# Altium schematic symbol library M-Controls.SchLib: 141 symbols
Pins are listed as number, name and electrical type; pins without a type are passive.

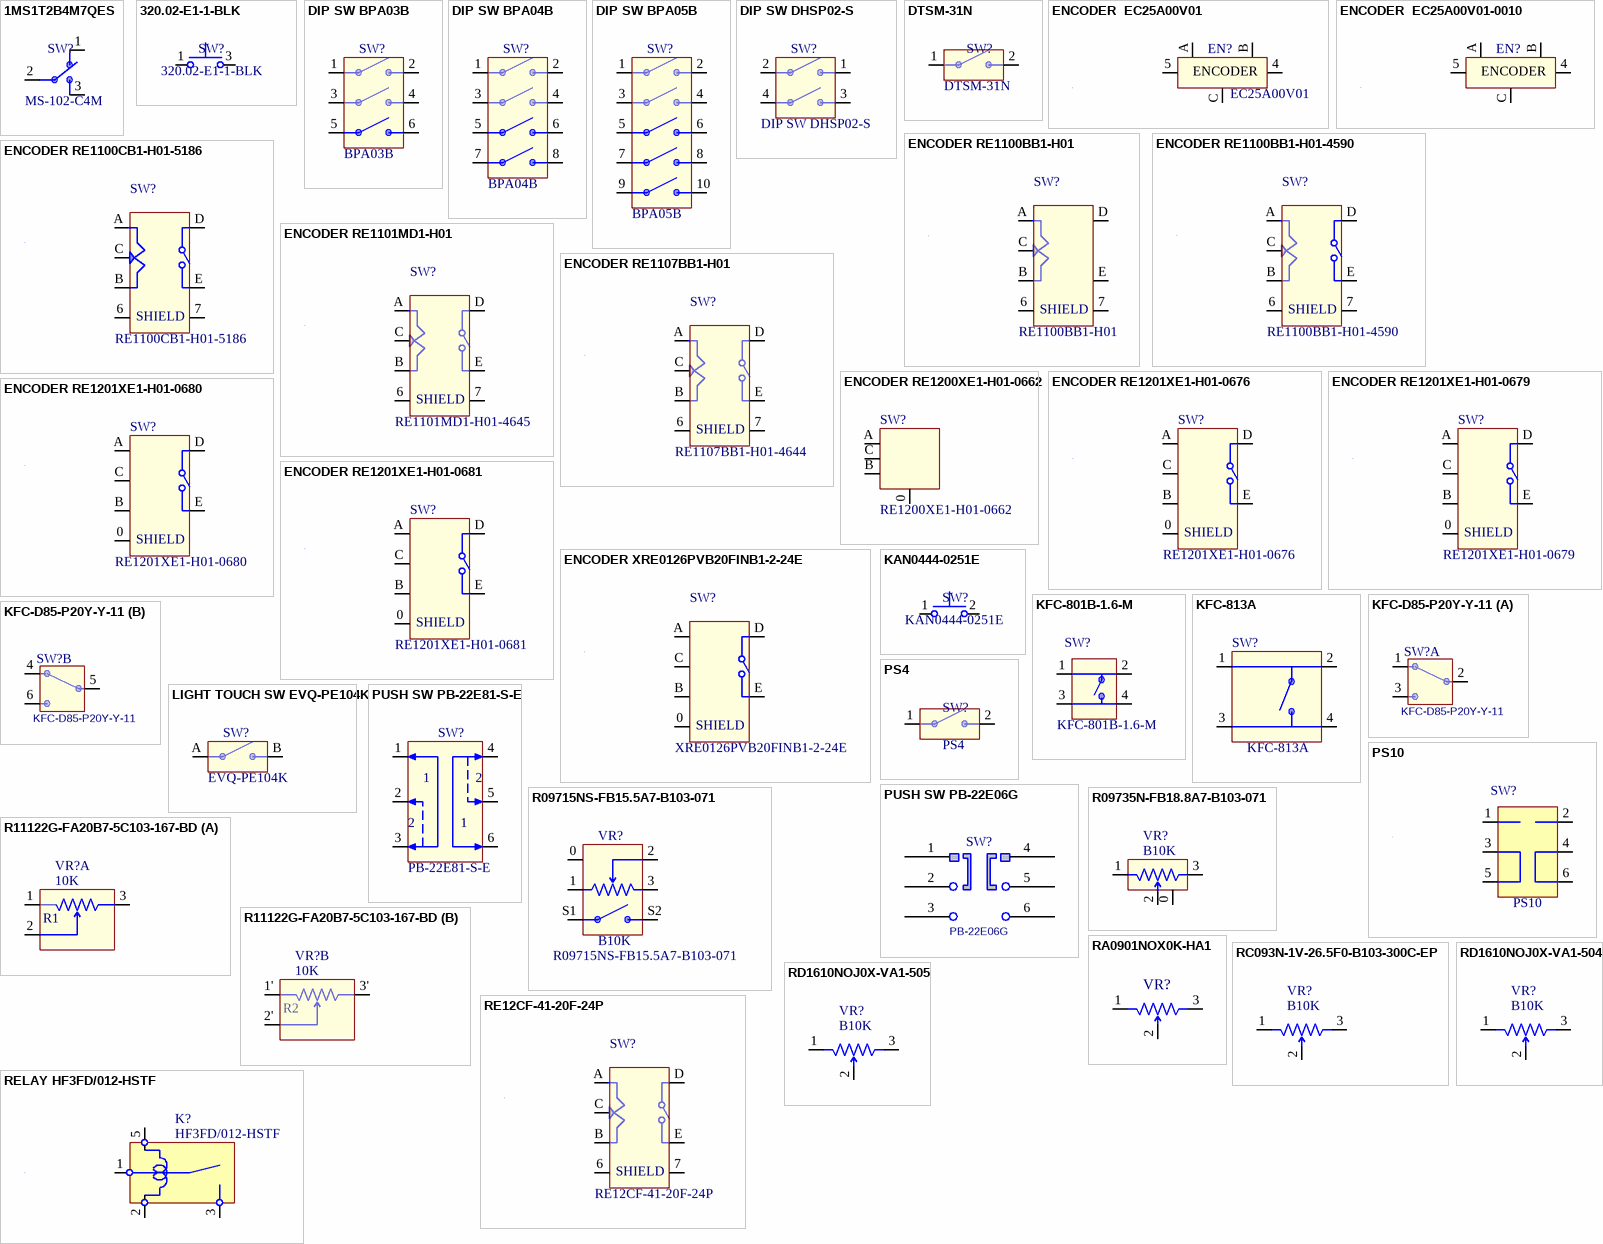
[diagram p0: symbols 1MS1T2B4M7QES to RELAY HF3FD/012-HSTF]

## 1MS1T2B4M7QES
designator SW?, comment MFG Part: MS-102-C4M  (hidden comment: MSWA07001-0010)
ROCKER SW 1MS1T2B4M7QES; SAP: T671100000500; MFG: 金明浩; Vendor Code: 10020043; Vendor Name: 深圳得势贸易有限公司; DIP&SMD: DIP; Value: *; Type: Switch
footprint 1MS1T2B4M7QES
pins: 1, 2, 3

## 320.02-E1-1-BLK
designator SW?, comment MFG Part: 320.02-E1-1-BLK  (hidden comment: MSWA06008-0010)
SMD TACT SWITCH  320.02-E1-1-BLK; SAP: T670200000600; MFG: E-SWITCH; CREATE_NAME: TOM@Deftronics; DIP&SMD: DIP; Vendor Code: *; Vendor Name: *; Type: Switch; CREATE_TIME: 09-Oct-2013
footprint 320.02-E1-1-BLK (SMD TACT SWITCH  320.02-E1-1-BLK)
pins: 1, 3

## DIP SW BPA03B
designator SW?  MFG Part: BPA03B
SIDE ACTUATOR DIP SWITCH BPA03B K; MFG: C&K; CREATE_NAME: Nathan; DIP&SMD: SMD; SAP: *; Vendor Code: *; Vendor Name: *; Value: *; Type: Switch; CREATE_TIME: 22-Dec-2020; Customer Specific: N/A
footprint BPA03B-H
pins: 1, 2, 3, 4, 5, 6

## DIP SW BPA04B
designator SW?  MFG Part: BPA04B
SIDE ACTUATOR DIP SWITCH BPA04B K; MFG: C&K; CREATE_NAME: Nathan; DIP&SMD: SMD; SAP: *; Vendor Code: *; Vendor Name: *; Value: *; Type: Switch; CREATE_TIME: 04-Dec-2020; Customer Specific: N/A
footprint BPA04B-H
pins: 1, 2, 3, 4, 5, 6, 7, 8

## DIP SW BPA05B
designator SW?  MFG Part: BPA05B
SIDE ACTUATOR DIP SWITCH BPA05B K; MFG: C&K; CREATE_NAME: Nathan; DIP&SMD: SMD; SAP: *; Vendor Code: *; Vendor Name: *; Value: *; Type: Switch; CREATE_TIME: 04-Dec-2020; Customer Specific: N/A
footprint BPA05B-H
pins: 1, 2, 3, 4, 5, 6, 7, 8, 9, 10

## DIP SW DHSP02-S
designator SW?  MFG Part: DIP SW DHSP02-S
ENCODER DHSP02-S SMD K; SAP: T671200000500; MFG: JINGJU; CREATE_NAME: Tom; Vendor Code: *; Vendor Name: *; Value: *; Type: Switch; CREATE_TIME: 23-Jul-2019; DIP&SMD: SMD; Customer Specific: N/A
footprint DIP SW DHSP02-S
pins: 1, 2, 3, 4

## DTSM-31N
designator SW?, comment MFG Part: DTSM-31N  (hidden comment: MCWA06002-0010)
CHIP SWITCH  2P  W3.5  H1.6  PITCH3.4; SAP: T670200001800; MFG: DELIWEI; Vendor Code: 10020043; Vendor Name: 深圳得势贸易有限公司; Value: TACT; Current: 50mA; Voltage: 12V; DIP&SMD: SMD; Type: Switch
footprint DTSM-31N
pins: 1, 2

## ENCODER  EC25A00V01
designator EN?  MFG Part: EC25A00V01  (hidden comment: *)
ENCODER  EC25A00V01; MFG: TaoTao; CREATE_NAME: Nathan; DIP&SMD: DIP; SAP: *; Vendor Code: *; Vendor Name: *; CREATE_TIME: 22-May-2020; Voltage: *; Type: ENCODER; Current: *
footprint ENCODER  EC25A00V01
pins: 4, 5, A, B, C

## ENCODER  EC25A00V01-0010
designator EN?  (value not drawn)
ENCODER  EC25A00V01; MFG Part: EC25A00V01-0010  XA110A20H095; MFG: TaoTao; CREATE_TIME: 28-Jul2020; CREATE_NAME: Nathan; DIP&SMD: DIP; SAP: *; Vendor Code: *; Vendor Name: *; Voltage: *; Type: ENCODER; Current: *
footprint ENCODER  EC25A00V01
pins: 4, 5, A, B, C

## ENCODER RE1100BB1-H01
designator SW?, comment MFG Part: RE1100BB1-H01  (hidden comment: T670500001700)
ENCODER RE1100BB1-H01 180° G; MFG: LJV; Current: 0.5mA; CREATE_NAME: Nathan; DIP&SMD: DIP; SAP: T670500001700; Vendor Code: *; Vendor Name: *; CREATE_TIME: 17-Oct-2017; Voltage: *; Type: ENCODER
footprint RE1101BB1-H01 (ENCODER RE110 * BB1-H01)
pins: 6 SHIELD, 7 SHIELD, A, B, C, D, E

## ENCODER RE1100BB1-H01-4590
designator SW?  MFG Part: RE1100BB1-H01-4590
ENCODER RE1100BB1-H01-4590; MFG: LJV; CREATE_NAME: Nathan; DIP&SMD: DIP; SAP: *; Vendor Code: *; Vendor Name: *; Current: *; CREATE_TIME: 09-Mar-2021; Voltage: *; Type: ENCODER
footprint RE1101BB1-H01-4590 (ENCODER RE110 * BB1-H01-4590)
pins: 6 SHIELD, 7 SHIELD, A, B, C, D, E

## ENCODER RE1100CB1-H01-5186
designator SW?, comment MFG Part: RE1100CB1-H01-5186  (hidden comment: T671200000300)
ENCODER RRE1100CB1-H01-5186 LJV K; MFG: 玉泉(LJV); CREATE_NAME: Nathan; Voltage: 5VDC; DIP&SMD: DIP; Remark: Update Vendor PN on 25-Apr-2018; SAP: T671200000300; Vendor Code: *; Vendor Name: *; Current: *; CREATE_TIME: 26-Jan-2018; Type: ENCODER
footprint RE1100CB1-H01 (ENCODER RE1100CB1-H01)
pins: 6 SHIELD, 7 SHIELD, A, B, C, D, E

## ENCODER RE1101MD1-H01
designator SW?, comment MFG Part: RE1101MD1-H01-4645  (hidden comment: T670500001400)
ENCODER RE1101MD1-H01-4645 180° K; MFG: LJV; Current: 0.5mA; CREATE_NAME: Tom; DIP&SMD: DIP; SAP: T670500001400; Vendor Code: *; Vendor Name: *; CREATE_TIME: 15-Oct-2015; Voltage: *; Type: ENCODER
footprint RE1101MD1-H01 (ENCODER RE1101MD1-H01)
pins: 6 SHIELD, 7 SHIELD, A, B, C, D, E

## ENCODER RE1107BB1-H01
designator SW?, comment MFG Part: RE1107BB1-H01-4644  (hidden comment: T670500001500)
ENCODER RE1107BB1-H01-4644 180° K; MFG: LJV; Current: 0.5mA; CREATE_NAME: Nathan; Remark: 2016-12-24 T670500001500更新规格书(RE1101BB1 Change TO RE1107BB1); DIP&SMD: DIP; SAP: T670500001500; Vendor Code: *; Vendor Name: *; CREATE_TIME: 18-Sep-2015; Voltage: *; Type: ENCODER
footprint RE1101BB1-H01 (ENCODER RE110 * BB1-H01)
pins: 6 SHIELD, 7 SHIELD, A, B, C, D, E

## ENCODER RE1200XE1-H01-0662
designator SW?, comment MFG Part: RE1200XE1-H01-0662  (hidden comment: T670500003100)
RE1200XE1-H01-0662 3PIN DC5V 0.5MA K; MFG: LJV; CREATE_NAME: Nathan; DIP&SMD: DIP; Vendor Code: *; Vendor Name: *; SAP: T670500003100; Type: IC; CREATE_TIME: 25-Dec-2019
footprint RE1200XE1-H01-0662
pins: 0, A, B, C

## ENCODER RE1201XE1-H01-0676
designator SW?, comment MFG Part: RE1201XE1-H01-0676  (hidden comment: T670500004100)
RE1201XE1-H01-0676 7PIN DC5V K; MFG: LJV; CREATE_NAME: Nathan; DIP&SMD: DIP; SAP: T670500004100; Vendor Code: *; Vendor Name: *; Current: *; CREATE_TIME: 22-May-2020; Voltage: *; Type: ENCODER; Remark: *
footprint RE1201XE1-H01_L25 (RE1201XE1-H01 L25)
pins: 0 SHIELD, A, B, C, D, E

## ENCODER RE1201XE1-H01-0679
designator SW?, comment MFG Part: RE1201XE1-H01-0679  (hidden comment: T670500003900)
ENCODER RE1201XE1-H01-0679 180° K; MFG: LJV; CREATE_NAME: Nathan; DIP&SMD: DIP; SAP: T670500003900; Vendor Code: *; Vendor Name: *; Current: *; CREATE_TIME: 19-May-2020; Voltage: *; Type: ENCODER; Remark: *
footprint RE1201XE1-H01_L20 (RE1201XE1-H01 L20)
pins: 0 SHIELD, A, B, C, D, E

## ENCODER RE1201XE1-H01-0680
designator SW?, comment MFG Part: RE1201XE1-H01-0680  (hidden comment: T670500003800)
ENCODER RE1201XE1-H01-0680 180° K; MFG: LJV; CREATE_NAME: Nathan; DIP&SMD: DIP; SAP: T670500003800; Vendor Code: *; Vendor Name: *; Current: *; CREATE_TIME: 19-May-2020; Voltage: *; Type: ENCODER; Remark: *
footprint RE1201XE1-H01_L20 (RE1201XE1-H01 L20)
pins: 0 SHIELD, A, B, C, D, E

## ENCODER RE1201XE1-H01-0681
designator SW?, comment MFG Part: RE1201XE1-H01-0681  (hidden comment: T670500004000)
RE1201XE1-H01-0681 7PIN DC5V K; MFG: LJV; CREATE_NAME: Nathan; DIP&SMD: DIP; SAP: T670500004000; Vendor Code: *; Vendor Name: *; Current: *; CREATE_TIME: 22-May-2020; Voltage: *; Type: ENCODER; Remark: *
footprint RE1201XE1-H01_L25 (RE1201XE1-H01 L25)
pins: 0 SHIELD, A, B, C, D, E

## ENCODER XRE0126PVB20FINB1-2-24E
designator SW?, comment MFG Part: XRE0126PVB20FINB1-2-24E  (hidden comment: T670500002900)
ENCODER XRE0126PVB20FINB1-2-24E K; MFG: NOBLE; CREATE_NAME: Tom; Voltage: 5VDC; DIP&SMD: DIP; SAP: T670500002900; Vendor Code: *; Vendor Name: *; Current: *; CREATE_TIME: 29-May-2019; Type: ENCODER; Remark: *
footprint ENCODER XRE0126PVB20FINB1-2-24E (PULSE 5P 24STEPS ENCODER)
pins: 0 SHIELD, A, B, C, D, E

## KAN0444-0251E
designator SW?, comment MFG Part: KAN0444-0251E  (hidden comment: MCWA06004-0010)
SMD TACT SWITCH 2P KAN0444-0251E; SAP: T670200001900; MFG: 创恩电子; CREATE_NAME: GordonL@Deftronics; Vendor Code: *; Vendor Name: *; Type: Switch; CREATE_TIME: 11-Mar-2014; DIP&SMD: SMD
footprint KAN0444-0251E (Tact Switch  2P  3.9*2.9*1.5)
pins: 1, 2

## KFC-801B-1.6-M
designator SW?, comment MFG Part: KFC-801B-1.6-M  (hidden comment: MCWA06007-0010)
TACT SWITCH 50mA 12VDC KFC-801B-1.6-M; SAP: T670200002100; MFG: 深圳罡坚; Voltage: 12V; DIP&SMD: SMD; Vendor Code: *; Vendor Name: *; Value: TACT; Current: 50mA; Type: Switch
footprint KFC-801B-1.6-M (KFC-801B-1.6-M 4P  5.2*5.2*6.4*1.6mm)
pins: 1, 2, 3, 4

## KFC-813A
designator SW?, comment MFG Part: KFC-813A  (hidden comment: MCWA06001-0010)
CHIP SWITCH  4P  W4.5  H1.6  PITCH3.4; SAP: T670200001700; MFG: 金铭浩; Vendor Code: 10010007; Vendor Name: 深圳市金明浩电子科技有限公司; Value: TACT; Current: 50mA; Voltage: 12V; DIP&SMD: SMD; Type: Switch
footprint KFC-813A
pins: 1, 2, 3, 4

## KFC-D85-P20Y-Y-11
designator SW?, comment MFG Part: KFC-D85-P20Y-Y-11  (hidden comment: MSWA03003-0010)
PUSH SWITCH 2PDT 6P KFC-D85-P20Y-Y-11; SAP: T670100000300; MFG: TIANX; CREATE_NAME: Tom; Value: DC60V/0.3A; DIP&SMD: DIP; CREATE_TIME: 14-Apr-2015; TYPE: SWITCH
footprint KFC-D85-P20Y-Y-11 (PUSH SWITCH 2PDT 6P KFC-D85-P20Y-Y-11)
part A pins: 1, 2, 3
part B pins: 4, 5, 6

## LIGHT TOUCH SW EVQ-PE104K
designator SW?  MFG Part: EVQ-PE104K  (hidden comment: *)
CHIP SWITCH  2P  W3.5  H1.6  PITCH3.4; MFG: Panasonic; Value: Light Touch; DIP&SMD: SMD; CREATE_NAME: Nathan; SAP: *; Vendor Code: *; Vendor Name: *; Current: *; Voltage: *; Type: Switch; CREATE_TIME: 11-Sep-2020
footprint LIGHT TOUCH SW EVQ-PE104K (LIGHT  TOUCH SW SMD)
pins: A, B

## PS4
designator SW?, comment MFG Part: PS4  (hidden comment: MSWA03002-0010)
PUSH  SWITCH  PS4 10A 250V; SAP: T670100000200; MFG: 金明浩; Vendor Code: 10010007; Vendor Name: 深圳市金明浩电子科技有限公司; Current: 8A; DIP&SMD: DIP; Value: *; Voltage: 250V; Type: Switch
footprint PS4
pins: 1, 2

## PS10
designator SW?, comment MFG Part: PS10  (hidden comment: MSW004009-0030)
SILD SW PS10-4-6RF230 115/230V BEI ERJIA; SAP: T670600000700; MFG: 金明浩; Vendor Code: 10010007; Vendor Name: 深圳市金明浩电子科技有限公司; Value: SLIDE; Current: 10A; Voltage: 250V; DIP&SMD: DIP; Type: Switch
footprint PS10
pins: 1, 2, 3, 4, 5, 6

## PUSH SW PB-22E06G
designator SW?, comment MFG Part: PB-22E06G  (hidden comment: T670200014900)
PB-22E06G 30V 0.1A K; MFG: 精聚五金; CREATE_NAME: Nathan; Value: DC30V/0.1A; DIP&SMD: DIP; SAP: T670200014900; CREATE_TIME: 14-June-2019; TYPE: SWITCH
footprint PB-22E06G (VERTICAL PUSH SWITCH)
pins: 1, 2, 3, 4, 5, 6

## PUSH SW PB-22E81-S-E
designator SW?  MFG Part: PB-22E81-S-E
PUSH BUTTON SWITCH PB-22E81-S-E; MFG: HAOYU; CREATE_NAME: Nathan; DIP&SMD: DIP; SAP: *; Vendor Code: *; Vendor Name: *; Value: *; Current: *; Voltage: *; Type: Switch; CREATE_TIME: 18-Mar-2021; Customer Specific: N/A
footprint PUSH SW PB-22E81-S-E (PUSH BUTTON SWITCH PB-22E81-S-E)
pins: 1, 2, 3, 4, 5, 6

## R09715NS-FB15.5A7-B103-071
designator VR?, comment value B10K  MFG Part: R09715NS-FB15.5A7-B103-071  (hidden comment: T531220001320)
VR CA 10K B 11.3*9.5*2 R09715NS- K; MFG: IDEAL; CREATE_NAME: Nathan; Tolerance: 10%; DIP&SMD: DIP; SAP: T531220001320; Vendor Code: *; Vendor Name: *; Type: Potentiometer; CREATE_TIME: 10-APR-2019
footprint R09715NS-FB15.5A7-B103-071 (VR R09715NS-FB15.5A7-B103-071)
pins: 0, 1, 2, 3, S1, S2

## R09735N-FB18.8A7-B103-071
designator VR?, comment value B10K  (hidden comment: T531220001420)
VR CA 10K B 11.3*9.5*2 R09735N-F K; MFG Part: R09735N-FB18.8A7-B103-071; MFG: IDEAL; CREATE_NAME: Nathan; DIP&SMD: DIP; SAP: T531220001420; Vendor Code: *; Vendor Name: *; Type: VR; CREATE_TIME: 10-Apr-2019
footprint R09735N-FB18.8A7-B103-071 (VR R09735N-FB18.8A7-B103-071)
pins: 0, 1, 2, 3

## R11122G-FA20B7-5C103-167-BD
designator VR?, comment value 10K  (hidden comment: T531230000420)
VR CA 10K C L=20MM R11122G-F K; MFG Part: R11122G-FA20B7-5C103-167-BD; MFG: IDEAL; CREATE_NAME: Tom; DIP&SMD: DIP; SAP: T531230000420; Vendor Code: *; Vendor Name: *; Type: Potentiometer; CREATE_TIME: 21-Aug-2019
footprint R11122G-FA20B7-5C103-167
part A pins: 1, 2, 3
part B pins: 1', 2', 3'
part A text: R1
part B text: R2

## RA0901NOX0K-HA1
designator VR?, comment T531220003215  (value not drawn)
VR CA 10K B L=12.5MM RA0901NOX G; MFG Part: RA0901NOX0K-HA1; MFG: SOUNDWELL; CREATE_NAME: Tom; DIP&SMD: DIP; SAP: T531220003215; Vendor Name: *; Vendor Code: *; Type: Potentiometer; CREATE_TIME: 30-Mar-2015
footprint RA0901NOX0K-HA1
pins: 1, 2, 3

## RC093N-1V-26.5F0-B103-300C-EP
designator VR?, comment value B10K  (hidden comment: MVRA02306-1030)
ROTARY VR-POTEN SPST 10K HARVEST RC093N-1V-26.5F0-B103-300C-EP; SAP: T532220000714; MFG: 恒富电子; CREATE_NAME: TOM@Deftronics; DIP&SMD: DIP; Vendor Code: *; Vendor Name: *; Type: Potentiometer; CREATE_TIME: 15-Oct-2013; MFG Part: RC093N-1V-26.5F0-B103-300C-EP
footprint RC093N-1V-26.5F0-B103-300C-EP (RC093N-1V)
pins: 1, 2, 3

## RD1610NOJ0X-VA1-504
designator VR?  value B10K
VR CA 1K A RD16 RD1610NOJ K; MFG Part: RD1610NOJ0X-VA1-504; SAP: T531310001015; MFG: SOUNDWELL; DIP&SMD: DIP; CREATE_NAME: Nathan; Type: Switch; CREATE_TIME: 24-Dec-2020
footprint RD1610NOJ0X
pins: 1, 2, 3

## RD1610NOJ0X-VA1-505
designator VR?  value B10K
VR CA 10K B 25*17MM RD1610NOJ K; MFG Part: RD1610NOJ0X-VA1-505; SAP: T531320000215; MFG: SOUNDWELL; DIP&SMD: DIP; CREATE_NAME: Nathan; Type: Switch; CREATE_TIME: 24-Dec-2020
footprint RD1610NOJ0X
pins: 1, 2, 3

## RE12CF-41-20F-24P
designator SW?, comment MFG Part: RE12CF-41-20F-24P  (hidden comment: T670500001900)
ENCODER RE12CF-41-20F-24P 180° K; MFG: ALPHA    (東莞艾華電子); Current: 0.5mA; CREATE_NAME: Nathan; Voltage: 5VDC; DIP&SMD: DIP; SAP: T670500001900; Vendor Code: *; Vendor Name: *; CREATE_TIME: 17-June-2016; Type: ENCODER
footprint RE12CF-41-20F-24P (ENCODER RE12CF-41-20F-24P)
pins: 6 SHIELD, 7 SHIELD, A, B, C, D, E

## RELAY HF3FD/012-HSTF
designator K?  MFG Part: HF3FD/012-HSTF  (hidden comment: *)
RELAY 12V 10A DIP HF3FD/012-HSTF; MFG: HF; CREATE_NAME: Nathan; SAP: *; Vendor Code: *; Vendor Name: *; Type: RELAY; Voltage: 12V; Current: *; CREATE_TIME: 15-Oct-2020; DIP&SMD: DIP
footprint RELAY HF3FD/012-HSTF (HF3FD/012-HSTF Body 19mm L X 15.2mm W X 15.5mm H)
pins: 1, 2, 3, 5

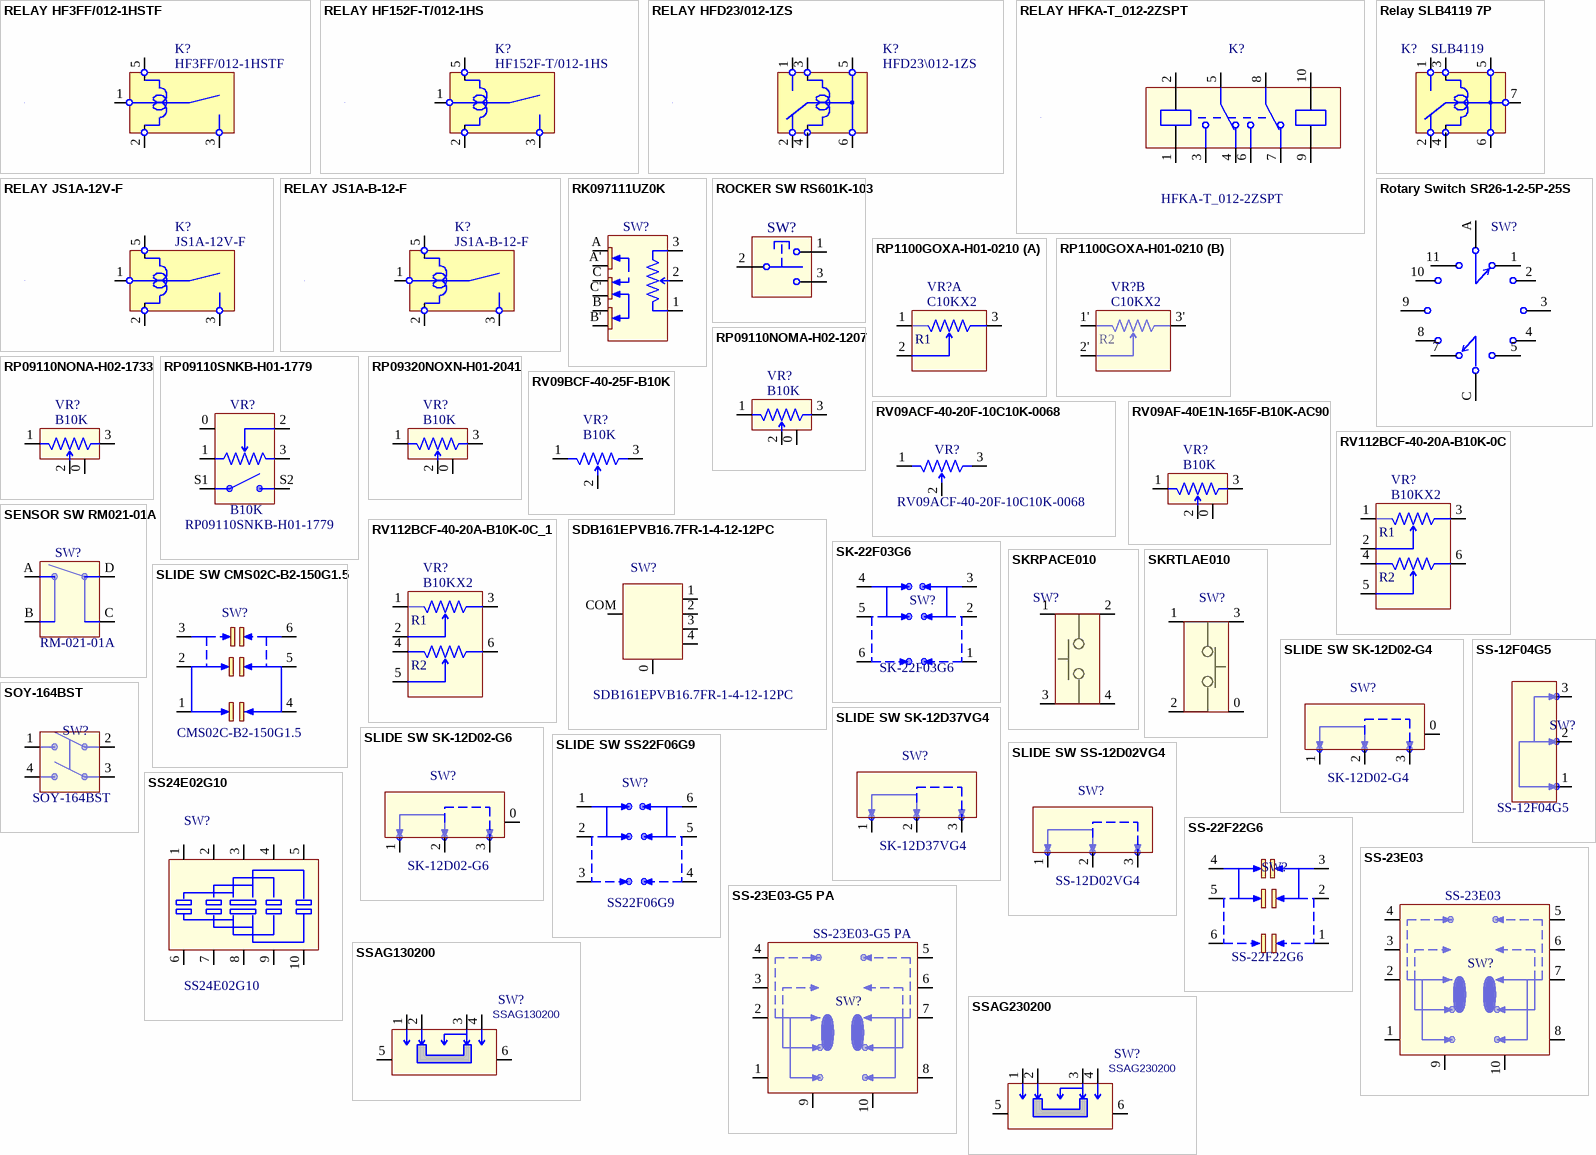
[diagram p1: symbols RELAY HF3FF/012-1HSTF to SSAG230200]

## RELAY HF3FF/012-1HSTF
designator K?  MFG Part: HF3FF/012-1HSTF  (hidden comment: *)
RELAY 12V 10A DIP HF3FF\012-1HSTF; MFG: HF; CREATE_NAME: Nathan; SAP: *; Vendor Code: *; Vendor Name: *; Type: RELAY; Voltage: 12V; Current: *; CREATE_TIME: 15-Oct-2020; DIP&SMD: DIP
footprint RELAY HF3FF/012-1HSTF (HF3FF/012-1HSTF Body 19mm L X 15.2mm W X 15.5mm H)
pins: 1, 2, 3, 5

## RELAY HF152F-T/012-1HS
designator K?  MFG Part: HF152F-T/012-1HS  (hidden comment: *)
RELAY HF152F-T/012-1HS; MFG: HF; Voltage: 12V; CREATE_TIME: 20201029; CREATE_NAME: Cherry; DIP&SMD: DIP; SAP: *; Vendor Code: *; Vendor Name: *; Type: RELAY; Current: *
footprint RELAY HF152F-T/012-1HS (HF152F-T\012-1HS)
pins: 1, 2, 3, 5

## RELAY HFD23/012-1ZS
designator K?  MFG Part: HFD23\012-1ZS
RELAY HFD23/012-1ZS; MFG: HF; Voltage: 12V; CREATE_NAME: Nathan; DIP&SMD: DIP; SAP: *; Vendor Code: *; Vendor Name: *; Type: RELAY; Current: *; CREATE_TIME: 22-Mar-2021
footprint RELAY HFD23/012-1ZS (HFD23\012-1ZS)
pins: 1, 2, 3, 4, 5, 6

## RELAY HFKA-T_012-2ZSPT
designator K?
HFKA-T_012-2ZSPT; MFG: HONG FA; Voltage: 12VDC; CREATE_NAME: Nathan; DIP&SMD: DIP; SAP: *; Vendor Code: *; Vendor Name: *; Current: *; Type: RELAY; CREATE_TIME: 17-Mar-2021; Customer Specific: N/A; MFG Part: HFKA-T_012-2ZSPT
footprint HFKA-T_012-2ZSPT (Double  Relay THT)
pins: 1, 2, 3, 4, 5, 6, 7 6, 8 7, 9 8, 10 9

## RELAY JS1A-12V-F
designator K?, comment MFG Part: JS1A-12V-F  (hidden comment: T690400000900)
RELAY 12V 250V 10A DIP JS1A-12V- K; MFG: PANASONIC; CREATE_NAME: Nathan; SAP: T690400000900; Vendor Code: *; Vendor Name: *; Type: RELAY; Voltage: 12V; Current: *; CREATE_TIME: 13-MAR-2019; DIP&SMD: DIP
footprint RELAY JS1A-12V-F (JS1A-12V-F  Body 22mm L X 16mm W X 16mm H)
pins: 1, 2, 3, 5

## RELAY JS1A-B-12-F
designator K?, comment MFG Part: JS1A-B-12-F  (hidden comment: T690400001100)
RELAY 12V 250V 10A DIP JS1A-B-12 K; MFG: PANASONIC; CREATE_NAME: Nathan; SAP: T690400001100; Vendor Code: *; Vendor Name: *; Type: RELAY; Voltage: 12V; Current: *; CREATE_TIME: 11-Jun-2020; DIP&SMD: DIP
footprint RELAY JS1A-12V-F (JS1A-12V-F  Body 22mm L X 16mm W X 16mm H)
pins: 1, 2, 3, 5

## Relay SLB4119 7P
designator K?, comment SLB4119
footprint RELAY SLB4119 (HFD23\012-1ZS)
pins: 1, 2, 3, 4, 5, 6, 7

## RK097111UZ0K
designator SW?, comment T532020000117  (value not drawn)
VR ME 10K OHM B 47.05MM RK097111U K; MFG Part: RK097111UZ0K; MFG: ALPS; CREATE_NAME: Nathan; DIP&SMD: DIP; Value: B10K; SAP: T532020000117; Vendor Code: *; Vendor Name: *; Type: VR/SW; CREATE_TIME: 23-Apr-2019
footprint RK097111UZ0K
pins: 1, 2, 3, A, A', B, B', C, C'

## ROCKER SW RS601K-103
designator SW?, comment T670000000300  (value not drawn)
SEESAW SWITCH RS601K-1030002BB K; MFG: 创恩; CREATE_NAME: Tom; DIP&SMD: DIP; SAP: T670000000300; Vendor Name: *; Vendor Code: *; Type: Swith; CREATE_TIME: 11-Nov-2016; MFG Part: RS601K-1030002BB
footprint ROCKER SW RS601K-103
pins: 1, 2, 3

## Rotary Switch SR26-1-2-5P-25S
designator SW?, comment T670500001000  (value not drawn)
ROTARY SWITCH SR26-1-2-5P-25S K; MFG: JINGYAO; CREATE_NAME: Tom; DIP&SMD: DIP; SAP: T670500001000; Type: Switch; CREATE_TIME: 08-Oct-2019; MFG Part: SR26-1-2-5P-25S
footprint Rotary Switch SR26-1-2-5P-25S
pins: 1, 2, 3, 4, 5, 7, 8, 9, 10, 11, A, C

## RP1100GOXA-H01-0210
designator VR?, comment value C10KX2  (hidden comment: T531230000618)
VR CA 10K C L:27.5MM\F RP1100GOX K; MFG Part: RP1100GOXA-H01-0210; MFG: LJV; CREATE_NAME: Tom; DIP&SMD: DIP; SAP: T531230000618; Vendor Code: *; Vendor Name: *; Type: Potentiometer; CREATE_TIME: 30-Aug-2019
footprint RP1100GOXA-H01-0210
part A pins: 1, 2, 3
part B pins: 1', 2', 3'
part A text: R1
part B text: R2

## RP09110NOMA-H02-1207
designator VR?, comment value B10K  (hidden comment: T531220003318)
VR CA 10K B 11.3*9.5*2 RP09110NO G; MFG Part: RP09110NOMA-H02-1207; MFG: LJV; CREATE_NAME: Nathan; DIP&SMD: DIP; SAP: T531220003318; Vendor Code: *; Vendor Name: *; Type: Switch; CREATE_TIME: 04-July-2016
footprint RP09110NOMA-H02-1207 (VR CA 10K B  11.3*9.5*28)
pins: 0, 1, 2, 3

## RP09110NONA-H02-1733
designator VR?, comment value B10K  (hidden comment: T531220000518)
VR CA 10K B 11.3*9.5*2 RP09110NO K; MFG Part: RP09110NONA-H02-1733; MFG: LJV; CREATE_NAME: Nathan; DIP&SMD: DIP; SAP: T531220000518; Vendor Code: *; Vendor Name: *; Type: Switch; CREATE_TIME: 28-Sep-2017
footprint RP09110NONA-H02-1733 (VR CA 10K B  11.3*9.5*28)
pins: 0, 1, 2, 3

## RP09110SNKB-H01-1779
designator VR?, comment value B10K  MFG Part: RP09110SNKB-H01-1779  (hidden comment: T531220000818)
VR CA 10K B 11.3*9.5*2 RP09110SN K; MFG: LJV; CREATE_NAME: Nathan; Tolerance: 10%; DIP&SMD: DIP; SAP: T531220000818; Vendor Code: *; Vendor Name: *; Type: Potentiometer; CREATE_TIME: 21-Dec-2017
footprint RP09110SNKB-H01-1734 (VR CA B 11.3*9.5*28.8)
pins: 0, 1, 2, 3, S1, S2

## RP09320NOXN-H01-2041
designator VR?, comment value B10K  (hidden comment: T531220001618)
VR CA 10K B L:27.5MM\F RP09320NO K; MFG Part: RP09320NOXN-H01-2041; MFG: LJV; CREATE_NAME: Tom; DIP&SMD: DIP; SAP: T531220001618; Vendor Code: *; Vendor Name: *; Type: VR; CREATE_TIME: 30-Aug-2019
footprint RP09320NOXN-H01-2041
pins: 0, 1, 2, 3

## RV09ACF-40-20F-10C10K-0068
designator VR?, comment MFG Part: RV09ACF-40-20F-10C10K-0068  (hidden comment: T531230000119)
ROTARY  Potentiometer 10K RV09ACF-40-20F-10C10K-0068; MFG: ALPHA    (東莞艾華電子); CREATE_NAME: Nathan; DIP&SMD: DIP; SAP: T531230000119; Vendor Code: *; Vendor Name: *; Value: 10K; Type: Potentiometer; CREATE_TIME: 17-June-2016
footprint RV09ACF-40-20F (ROTARY 10k OHM RV09ACF-40-20F-10C10K-0068)
pins: 1, 2, 3

## RV09AF-40E1N-165F-B10K-AC90
designator VR?, comment value B10K  (hidden comment: T531220001919)
VR CA 10K B L16.5+-0.5 RV09AF-40 K; MFG Part: RV09AF-40E1N-165F-B10K-AC90; MFG: ALPHA; CREATE_NAME: Tom; DIP&SMD: DIP; SAP: T531220001919; Vendor Code: *; Vendor Name: *; Type: Switch; CREATE_TIME: 12-Sep-2019
footprint RV09AF-40E1N-165F-B10K-AC90
pins: 0, 1, 2, 3

## RV09BCF-40-25F-B10K
designator VR?, comment value B10K  (hidden comment: MVRA02101-1030)
VR CA 10K B L=25±0.5MM RV09BCF-4 G; MFG Part: RV09BCF-40-25F-B10K-0C; SAP: T531220003000; MFG: NORMAL; CREATE_NAME: Evan@Deftronics; DIP&SMD: DIP; Vendor Code: *; Vendor Name: *; Type: Potentiometer; CREATE_TIME: 29-Apr-2014
footprint RV09BCF-40-25F-B10K (ROTARY 10k OHM RV09BCF-40-25F-B10K)
pins: 1, 2, 3

## RV112BCF-40-20A-B10K-0C
designator VR?, comment value B10KX2  (hidden comment: T531220000419)
VR CA 10K B 15.4X13MM RV112BCF- K; MFG Part: RV112BCF-40-20A-B10K-0C; MFG: ALPHA    (東莞艾華電子); CREATE_NAME: Nathan; DIP&SMD: DIP; SAP: T531220000419; Vendor Code: *; Vendor Name: *; Type: Potentiometer; CREATE_TIME: 13-Oct-2017
footprint RV112BCF-40-20A-B10K-0C
pins: 1, 2, 3, 4, 5, 6
text: R1; R2

## RV112BCF-40-20A-B10K-0C_1
designator VR?, comment value B10KX2  (hidden comment: T531220000419)
VR CA 10K B 15.4X13MM RV112BCF- K; MFG Part: RV112BCF-40-20A-B10K-0C; MFG: ALPHA    (東莞艾華電子); CREATE_NAME: Nathan; DIP&SMD: DIP; SAP: T531220000419; Vendor Code: *; Vendor Name: *; Type: Potentiometer; CREATE_TIME: 13-Oct-2017
footprint RV112BCF-40-20A-B10K-0C
pins: 1, 2, 3, 4, 5, 6
text: R1; R2

## SDB161EPVB16.7FR-1-4-12-12PC
designator SW?, comment MFG Part: SDB161EPVB16.7FR-1-4-12-12PC  (hidden comment: T670500002000)
ENCODER SDB161EPVB16.7FR-1-4-12-12PC W; MFG: NOBLE (TEIKOKU TSUSHIN KOGYO CO); CREATE_NAME: Nathan; Tolerance: 20%; DIP&SMD: DIP; SAP: T670500002000; Vendor Code: *; Vendor Name: *; Value: *; Type: Encoder; CREATE_TIME: 17-June-2016
footprint SDB161EPVB16.7FR-1-4-12-12PC
pins: 0, 1, 2, 3, 4, COM

## SENSOR SW RM021-01A
designator SW?, comment MFG Part: RM-021-01A  (hidden comment: T670400000900)
DIP SWITCH 12V 1MA 4P K; MFG: 创恩; CREATE_NAME: Nathan; SAP: T670400000900; Vendor Code: *; Vendor Name: *; Type: Switch; CREATE_TIME: 16-Mar-2018; Current: 1mA; Voltage: 12V; DIP&SMD: DIP
footprint SW_RM021-01A_DIP (Sensor Switch RM021-01A DIP Body)
pins: A, B, C, D

## SK-22F03G6
designator SW?, comment MFG Part: SK-22F03G6  (hidden comment: MSWA04001-0010)
SLIDE SWITCH SK-22F03 6 PIN; SAP: T670600001500; MFG: 金明浩; Vendor Code: 10010007; Vendor Name: 深圳市金明浩电子科技有限公司; Current: 0.5A; Voltage: 50V; DIP&SMD: DIP; Value: *; Type: Switch
footprint SK-22F03G6
pins: 1, 2, 3, 4, 5, 6

## SKRPACE010
designator SW?, comment T670200004500  (value not drawn)
4.2X3.2X2.5(H)MM FORCE TYPE SKRPACE010 K; CREATE_NAME: GordonL@Deftronics; MFG: ALPS; DIP&SMD: SMD; CREATE_TIME: 01-Apr-2014; SAP: T670200004500; MFG Part: SKRPACE010; Vendor Code: *; Vendor Name: *; Type: SWITCH
footprint SKRPACE010 (Tact switch SKRPACE010 4.2x3.2mm ALPS)
pins: 1, 2, 3, 4

## SKRTLAE010
designator SW?, comment T670200004200  (value not drawn)
4.5X3.55X3.3 SIDE PUSH 1.6N SKRTLAE010 L; CREATE_NAME: Cherry; MFG: ALPS; DIP&SMD: SMD; CREATE_TIME: 2019-04-10; SAP: T670200004200; MFG Part: SKRTLAE010; Vendor Code: *; Vendor Name: *; Type: SWITCH
footprint SKRTLAE010 (Tact switch SKRTLAE010)
pins: 0, 1, 2, 3

## SLIDE SW CMS02C-B2-150G1.5
designator SW?
CMS02C-B2-150G1.5; MFG: JINGJU; CREATE_NAME: Nathan; DIP&SMD: SMD; SAP: *; Vendor Code: *; Vendor Name: *; Current: *; Type: Switch; CREATE_TIME: 09-Apr-2021; MFG Part: CMS02C-B2-150G1.5
footprint CMS02C-B2-150G1.5 (CHIP Slider Switch CMS02C-B2-150G1.5)
pins: 1, 2, 3, 4, 5, 6

## SLIDE SW SK-12D02-G4
designator SW?, comment MFG Part: SK-12D02-G4  (hidden comment: T670600003000)
SLIDE SWITCH 3PIN SK-12D02 K; MFG: XIEJIA (协佳); Value: 1P2T; CREATE_NAME: Nathan; DIP&SMD: DIP; SAP: T670600003000; Vendor Code: *; Vendor Name: *; Current: *; Voltage: *; Type: Switch; CREATE_TIME: 29-Nov-2018; Customer Specific: N/A
footprint SLIDE SW SK-12D02-G4
pins: 0, 1, 2, 3

## SLIDE SW SK-12D02-G6
designator SW?, comment MFG Part: SK-12D02-G6  (hidden comment: T670600003500)
SLIDE SWITCH 3PIN SK-12D02-G6 K; MFG: XIEJIA (协佳); Value: 1P2T; CREATE_NAME: Nathan; DIP&SMD: DIP; SAP: T670600003500; Vendor Code: *; Vendor Name: *; Current: *; Voltage: *; Type: Switch; CREATE_TIME: 15-Aug-2019; Customer Specific: N/A
footprint SLIDE SW SK-12D02-G6
pins: 0, 1, 2, 3

## SLIDE SW SK-12D37VG4
designator SW?  MFG Part: SK-12D37VG4
SLIDE SWITCH  SK-12D37VG4; MFG: JINJU; Value: 1P2T; CREATE_NAME: Nathan; DIP&SMD: DIP; SAP: *; Vendor Code: *; Vendor Name: *; Current: *; Voltage: *; Type: Switch; CREATE_TIME: 09-Dec-2020; Customer Specific: N/A
footprint SK-12D37VG4 (CHIP SWITCH 3P1P/2T SK-12D37VG4)
pins: 1, 2, 3

## SLIDE SW SS22F06G9
designator SW?, comment MFG Part: SS22F06G9  (hidden comment: T670100002000)
SWITCH SS22F06G9 2P2T AT-16°~+60° K; MFG: 精聚五金; Current: 0.3A; Voltage: 50V; CREATE_NAME: Nathan; DIP&SMD: DIP; SAP: T670100002000; Vendor Code: *; Vendor Name: *; Value: 2P2T; Type: Switch; CREATE_TIME: 10-Jan-2018
footprint SLIDE SW SS22F06G9
pins: 1, 2, 3, 4, 5, 6

## SLIDE SW SS-12D02VG4
designator SW?  MFG Part: SS-12D02VG4
SLIDE SWITCH  SS-12D02VG4; SAP: T670600004000; MFG: 浩宇电子; Value: 1P2T; CREATE_NAME: Nathan; DIP&SMD: DIP; Vendor Code: *; Vendor Name: *; Current: *; Voltage: *; Type: Switch; CREATE_TIME: 16-Sep-2019; Customer Specific: N/A
footprint SLIDE SW SS-12D02VG4
pins: 1, 2, 3

## SOY-164BST
designator SW?, comment MFG Part: SOY-164BST  (hidden comment: MCWA06011-0010)
SMD TACT SWITCH SOY-164BST; SAP: T670200002500; MFG: MITSUMI; CREATE_NAME: GordonL@Deftronics; Vendor Code: *; Vendor Name: *; Value: *; Type: Switch; CREATE_TIME: 02-APR-2013; DIP&SMD: SMD
footprint SOY-164BST (CHIP SWITCH  4P  W7.6  H0.73 PITCH3.9)
pins: 1, 2, 3, 4

## SS24E02G10
designator SW?, comment MFG Part: SS24E02G10  (hidden comment: T670100001900)
SWITCH SS24E02G10 AT-16°~+60° K; MFG: 精聚五金; CREATE_NAME: Tom; DIP&SMD: DIP; Vendor Code: *; Vendor Name: *; SAP: T670100001900; Value: *; Type: Switch; CREATE_TIME: 31-Mar-2015
footprint SS24E02G10 (Footprint not found)
pins: 1, 2, 3, 4, 5, 6, 7, 8, 9, 10

## SS-12F04G5
designator SW?  MFG Part: SS-12F04G5  (hidden comment: *)
SLIDE SWITCH SW-1P2T 0.5A 50V K; MFG: HAOYU; Value: 1P2T; DIP&SMD: DIP; CREATE_NAME: Nathan; SAP: *; Vendor Code: *; Vendor Name: *; Current: *; Voltage: *; Type: Switch; CREATE_TIME: 16-Sep-2020
footprint SS12F04G5
pins: 1, 2, 3

## SS-22F22G6
designator SW?, comment MFG Part: SS-22F22G6  (hidden comment: MSWA04018-0010)
SLIDE SWITCH 2P/2T SS-22F22G6  17*7.5mm; SAP: T670600001300; MFG: 创恩; Value: 2P2T; CREATE_NAME: GordonL@Deftronics; DIP&SMD: DIP; Vendor Code: *; Vendor Name: *; Current: *; Voltage: *; Type: Switch; CREATE_TIME: 12-Jul-2013
footprint SS-22F22G6 (SLIDE SWITCH 2P/2T SS-22F22G6  17*7.5mm)
pins: 1, 2, 3, 4, 5, 6

## SS-23E03
designator SW?, comment MFG Part: SS-23E03  (hidden comment: MSWA04017-0010)
SLIDE SWITCH 2P/3T SS-23E03  20*9.3mm; SAP: T670600000500; MFG: 创恩; Value: 2P3T; Voltage: 50V; CREATE_NAME: GordonL@Deftronics; DIP&SMD: DIP; Vendor Code: *; Vendor Name: *; Current: *; Type: Switch; CREATE_TIME: 12-Jul-2013
footprint SS-23E03 (SLIDE SWITCH 2P/3T SS-23E03  20*9.3mm)
pins: 1, 2, 3, 4, 5, 6, 7, 8, 9, 10

## SS-23E03-G5 PA
designator SW?, comment MFG Part: SS-23E03-G5 PA  (hidden comment: T670600002700)
SLIDE SWITCH 8P SS-23E03-G PA K; MFG: C&K; Value: 2P3T; Voltage: 50V; CREATE_NAME: Nathan; DIP&SMD: DIP; SAP: T670600002700; Vendor Code: *; Vendor Name: *; Current: *; Type: Switch; CREATE_TIME: 15-Mar-2017
footprint SS-23E03-G5 PA
pins: 1, 2, 3, 4, 5, 6, 7, 8, 9, 10

## SSAG130200
designator SW?  MFG Part: SSAG130200
SLIDE SWITCH SSAG130200 L; SAP: T670600003700; MFG: ALPS; CREATE_NAME: Nathan; DIP&SMD: DIP; CREATE_TIME: 29-Oct-2020; TYPE: SWITCH
footprint SSAG130200 (CHIP Slider Switch SSAG130200)
pins: 1, 2, 3, 4, 5, 6

## SSAG230200
designator SW?  MFG Part: SSAG230200
SLIDE SWITCH SSAG230200; MFG: ALPS; CREATE_NAME: Nathan; DIP&SMD: DIP; SAP: *; CREATE_TIME: 29-Oct-2020; TYPE: SWITCH
footprint SSAG230200 (CHIP Slider Switch SSAG230200)
pins: 1, 2, 3, 4, 5, 6

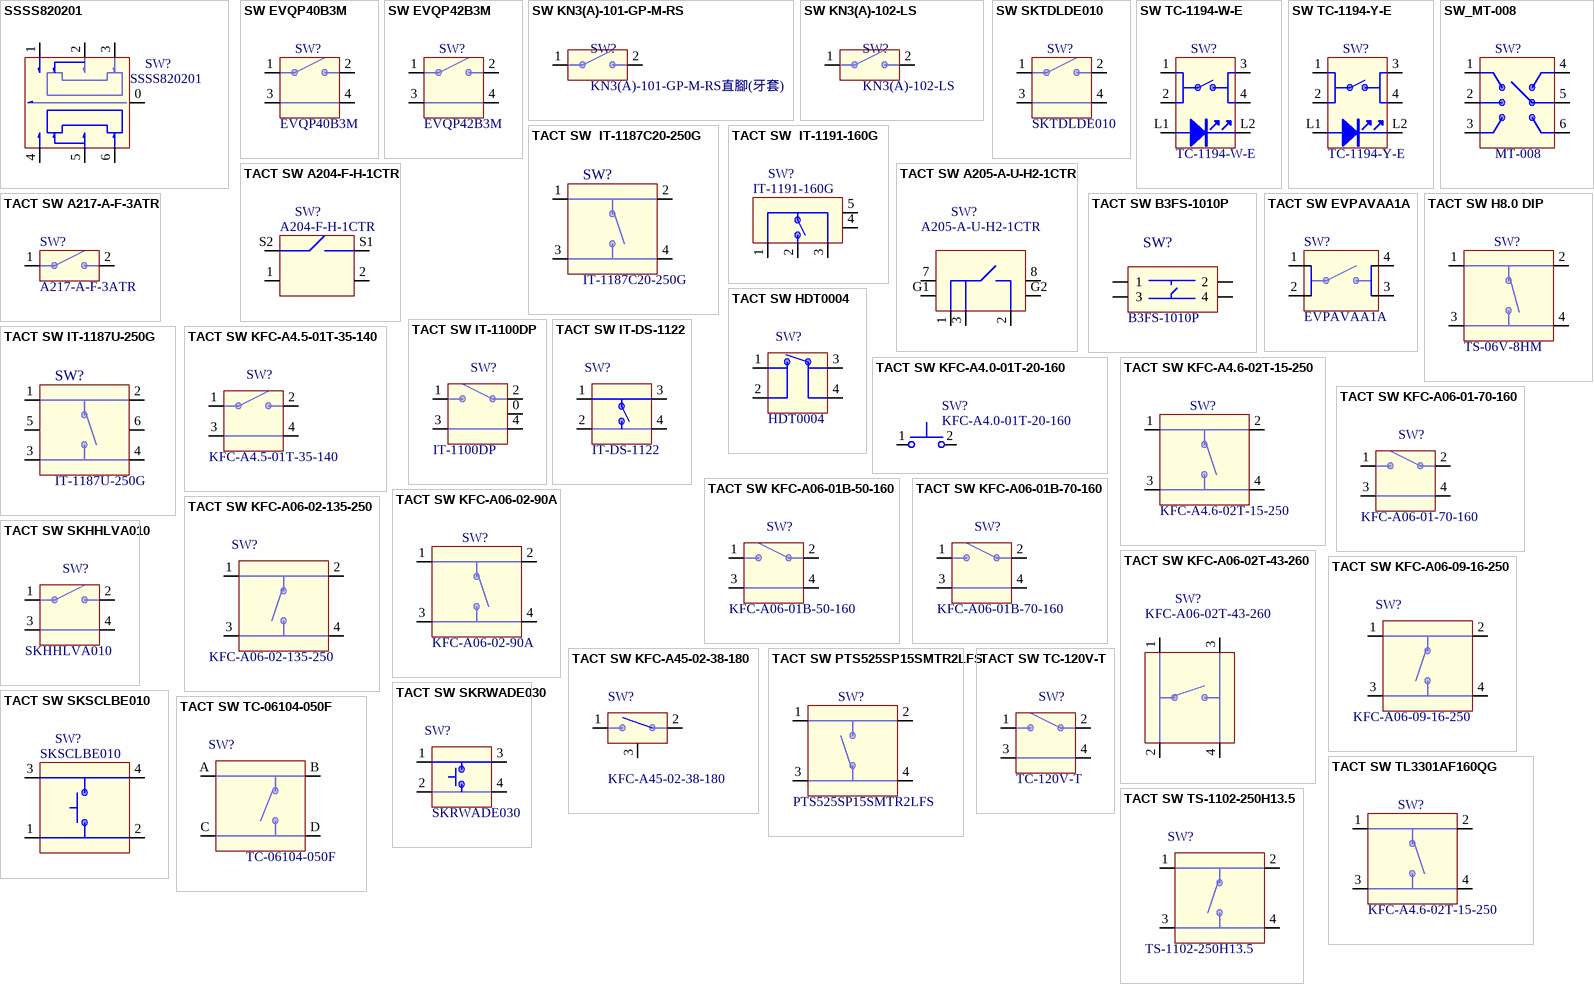
[diagram p2: symbols SSSS820201 to TACT SW TS-1102-250H13.5]

## SSSS820201
designator SW?  MFG Part: SSSS820201
ALPS SSSS820201; MFG: ALPS ELECTRIC; CREATE_NAME: Nathan; DIP&SMD: DIP; SAP: *; Vendor Code: *; Vendor Name: *; CREATE_TIME: 29-Dec-2020; Type: Switch
footprint SSSS820201 (CHIP Slider Switch SSSS820201)
pins: 0, 1, 2, 3, 4, 5, 6

## SW EVQP40B3M
designator SW?  MFG Part: EVQP40B3M
Edge-mount Light Touch Switch SMD EVQP40B3M  1.0N 6.2mm x 2.5mm Side-operational; MFG: Panasonic; CREATE NAME: Nathan; SAP: *; Type: Switch; DIP&SMD: SMD; Customer Specific: N/A; CREATE TIME: 10-Sep-2020
footprint SW EVQP40B3M
pins: 1, 2, 3, 4

## SW EVQP42B3M
designator SW?  MFG Part: EVQP42B3M
160G EDGE-MOUNT LIGHT TOUCH SWITCH K; MFG: Panasonic; DIP&SMD: SMD; CREATE NAME: Nathan; SAP: *; Type: Switch; Customer Specific: N/A; CREATE TIME: 04-Jan-2021
footprint SW EVQP42B3M
pins: 1, 2, 3, 4

## SW KN3(A)-101-GP-M-RS
designator SW?  MFG Part: KN3(A)-101-GP-M-RS直腳(牙套)
SWITCH  KN3(A)-101-GP-M-RS直腳(牙套); MFG: JINGJU; DIP&SMD: DIP; CREATE_NAME: Nathan; SAP: *; Vendor Code: *; Vendor Name: *; Value: *; Current: *; Voltage: *; Type: Switch; CREATE_TIME: 29-OCT-2020
footprint SW KN3(A)-101-GP-M-RS
pins: 1, 2

## SW KN3(A)-102-LS
designator SW?  MFG Part: KN3(A)-102-LS
SWITCH  KN3(A)-102-LS; MFG: JINGJU; DIP&SMD: DIP; CREATE_NAME: Cherry; CREATE_TIME: 20210311; SAP: *; Vendor Code: *; Vendor Name: *; Value: *; Current: *; Voltage: *; Type: Switch
footprint SWITCH  KN3(A)-102-LS
pins: 1, 2

## SW SKTDLDE010
designator SW?  MFG Part: SKTDLDE010
SW SMD SKTDLDE010; MFG: ALPS; CREATE NAME: Nathan; SAP: *; Type: Switch; DIP&SMD: SMD; Customer Specific: N/A; CREATE TIME: 27-Nov-2020
footprint TACT SW SKTDLDE010 (TACT SWITCH SKTDLDE010)
pins: 1, 2, 3, 4

## SW TC-1194-W-E
designator SW?
TC-1194-W-E; MFG: HAOYU; CREATE_NAME: Nathan; DIP&SMD: SMD; SAP: *; Vendor Code: *; Vendor Name: *; Value: *; Type: Switch; CREATE_TIME: 08-Mar-2021; Customer Specific: N/A; MFG Part: TC-1194-W-E
footprint SW TC-1194
pins: 1, 2, 3, 4, L1, L2

## SW TC-1194-Y-E
designator SW?
TC-1194-Y-E; MFG: HAOYU; CREATE_NAME: Nathan; DIP&SMD: SMD; SAP: *; Vendor Code: *; Vendor Name: *; Value: *; Type: Switch; CREATE_TIME: 03-Mar-2021; Customer Specific: N/A; MFG Part: TC-1194-Y-E
footprint SW TC-1194-Y-E
pins: 1, 2, 3, 4, L1, L2

## SW_MT-008
designator SW?  MFG Part: MT-008
SW MT-008; MFG: JINGJU; DIP&SMD: SMD; CREATE NAME: Nathan; SAP: *; Type: Switch; Customer Specific: N/A; CREATE TIME: 20-Oct-2020
footprint MT-008
pins: 1 A, 2 Center, 3 C, 4 B, 5 Common, 6 D

## TACT SW  IT-1187C20-250G
designator SW?  MFG Part: IT-1187C20-250G
TACT SWITCH IT-1187C20-250G; MFG: 精聚(JING JU); CREATE_NAME: Cherry; CREATE_TIME: 20201229; DIP&SMD: SMD; SAP: *; Vendor Name: *; Vendor Code: *; Type: Switch; Customer Specific: N/A
footprint TACT SW  IT-1187C20-250G (IT-1187C20-250G Switch Pressure 1pol 5.2x5.2mm 2.0mm SMD)
pins: 1, 2, 3, 4

## TACT SW  IT-1191-160G
designator SW?  MFG Part: IT-1191-160G
SIDE PUSH SW  IT-1191-160G; SAP: T670100002300; MFG: CHECK TECHNOLOGY; CREATE_NAME: Nathan; DIP&SMD: SMD; Vendor Code: *; Vendor Name: *; Type: Switch; CREATE_TIME: 10-Dec-2020; Customer Specific: N/A
footprint IT-1191-160G (Tact switch IT-1191-160G)
pins: 1, 2, 3, 4, 5

## TACT SW A204-F-H-1CTR
designator SW?  MFG Part: A204-F-H-1CTR
tact switch A204-F-H-1CTR; MFG: CHECK TECHNOLOGY; CREATE_NAME: Nathan; DIP&SMD: SMD; SAP: *; Vendor Code: *; Vendor Name: *; Type: Switch; CREATE_TIME: 05-Nov-2020; Customer Specific: N/A
footprint A204-F-H-1CTR (SIDE PUSH SW A204-F-H-1CTR)
pins: 1, 2, S1, S2

## TACT SW A205-A-U-H2-1CTR
designator SW?, comment MFG Part: A205-A-U-H2-1CTR  (hidden comment: T670100002300)
SIDE PUSH SW A205-A-U-H2-1CTR K; MFG: CHECK TECHNOLOGY; CREATE_NAME: Nathan; DIP&SMD: SMD; SAP: T670100002300; Vendor Code: *; Vendor Name: *; Type: Switch; CREATE_TIME: 19-June-2019; Customer Specific: N/A
footprint A205-A-U-H2-1CTR (SIDE PUSH SW A205-A-U-H2-1CTR)
pins: 1, 2, 3, 7, 8, G1, G2

## TACT SW A217-A-F-3ATR
designator SW?, comment MFG Part: A217-A-F-3ATR  (hidden comment: T670100002400)
SIDE PUSH SW A217-A-F-3ATR K; MFG: Check Technology; Value: TACT; Current: 50mA; DIP&SMD: SMD; CREATE NAME: Nathan; SAP: T670100002400; Vendor Code: *; Vendor Name: *; Voltage: *; Type: Switch; Customer Specific: N/A; CREATE TIME: 27-Feb-2020
footprint TACT SW A217-A-F-3ATR (TACT SW SMT)
pins: 1, 2

## TACT SW B3FS-1010P
designator SW?  MFG Part: B3FS-1010P  (hidden comment: *)
SWITCH TACT SPST-NO 0.05A 24V; MFG: Omron; DIP&SMD: SMD; SAP: *; Vendor Name: *; Vendor Code: *; Type: Switch; CREATE_NAME: *; CREATE_TIME: 2020-06-22; Customer Specific: N/A
footprint TACT SW B3FS-1010P (SMD TACT SWITCH 6..3*6*4.3mm B3FS-1010P)
pins: 1, 2, 3, 4

## TACT SW EVPAVAA1A
designator SW?  MFG Part: EVPAVAA1A
TACT SW EVPAVAA1A; DIP&SMD: SMD; CREATE NAME: Tom; SAP: *; MFG: *; Type: Switch; Customer Specific: N/A
footprint TACT SW EVPAVAA1A
pins: 1, 2, 3, 4

## TACT SW H8.0 DIP
designator SW?, comment MFG Part: TS-06V-8HM  (hidden comment: MSWA06012-0010)
TACT SWITC 4P L6*W6*H8mm; SAP: T670200001500; MFG: ShenZhen GanHad; Force: 250gf; DIP&SMD: DIP; Vendor Code: *; Vendor Name: *; Value: TACT; Voltage: *; Current: *; Type: Switch
footprint TS_6X6X8_DIP (TACT Switch DIP Body  L6*W6*H8mm)
pins: 1, 2, 3, 4

## TACT SW HDT0004
designator SW?  MFG Part: HDT0004
TACT SW HDT0004; MFG: C&K; CREATE_NAME: Tom; DIP&SMD: SMD; SAP: *; Value: TACT; Current: *; Type: Switch; CREATE_TIME: 07-Sep-2020; Customer Specific: N/A
footprint TACT SW HDT0004
pins: 1, 2, 3, 4

## TACT SW IT-1100DP
designator SW?
IT-1100DP; MFG: JING JU; CREATE_NAME: Nathan; DIP&SMD: SMD; SAP: *; Current: *; Type: Switch; CREATE_TIME: 18-Nov-2020; Customer Specific: N/A; MFG Part: IT-1100DP
footprint TACT SW IT-1100DP (TACT SWITCH IT-1100DP)
pins: 0, 1, 2, 3, 4

## TACT SW IT-1187U-250G
designator SW?  MFG Part: IT-1187U-250G
TACT SWITCH IT-1187U-250G; MFG: 精聚(JING JU); CREATE_NAME: Nathan; DIP&SMD: SMD; SAP: *; Vendor Name: *; Vendor Code: *; Type: Switch; CREATE_TIME: 05-Dec-2020; Customer Specific: N/A
footprint TACT SW  IT-1187U-250G (IT-1187U-250G Switch Pressure 1pol 5.2x5.2mm 0.9mm SMD)
pins: 1, 2, 3, 4, 5, 6

## TACT SW IT-DS-1122
designator SW?  MFG Part: IT-DS-1122  (hidden comment: *)
TACT SW IT-DS-1122; MFG: JING JU; CREATE_NAME: Nathan; DIP&SMD: SMD; SAP: *; Vendor Code: *; Vendor Name: *; Value: TACT; Current: *; Voltage: *; Type: Switch; CREATE_TIME: 05-Dec-2020; Customer Specific: N/A
footprint TACT SW IT-DS-1122
pins: 1, 2, 3, 4

## TACT SW KFC-A4.0-01T-20-160
designator SW?, comment MFG Part: KFC-A4.0-01T-20-160  (hidden comment: T670200011500)
CHIP TACT KFC-A4.0-01T-20-160 12V 50MA K; MFG: JINJIA; CREATE_NAME: Nathan; DIP&SMD: SMD; SAP: T670200011500; Vendor Code: *; Vendor Name: *; Type: Switch; CREATE_TIME: 10-May-2019
footprint KFC-A4.0-01T-20-160 (Tact Switch  2P  3.95*2.9*2)
pins: 1, 2

## TACT SW KFC-A4.5-01T-35-140
designator SW?, comment MFG Part: KFC-A4.5-01T-35-140  (hidden comment: T670200012200)
TACT SWITCH 4PIN 90 K; MFG: JINJIA; CREATE_NAME: Nathan; DIP&SMD: SMD; SAP: T670200012200; Vendor Code: *; Vendor Name: *; Value: TACT; Current: *; Voltage: *; Type: Switch; CREATE_TIME: 22-Aug-2018; Customer Specific: N/A
footprint TACT SW KFC-A4.5-01T-35-140 (TACT SWITCH KFC-A4.5-01T-35-140)
pins: 1, 2, 3, 4

## TACT SW KFC-A4.6-02T-15-250
designator SW?, comment MFG Part: KFC-A4.6-02T-15-250  (hidden comment: T670200009300)
SWITCH 4P W4.6 H1.5 PITCH3 K; MFG: JINJIA; CREATE_NAME: Nathan; DIP&SMD: SMD; SAP: T670200009300; Vendor Code: *; Vendor Name: *; Type: Switch; CREATE_TIME: 29-Aug-2017; Current: *; Voltage: *
footprint KFC-A4.6-02T-15-250 (CHIP SWITCH  4P  W4.6  H1.5)
pins: 1, 2, 3, 4

## TACT SW KFC-A06-01-70-160
designator SW?, comment MFG Part: KFC-A06-01-70-160  (hidden comment: MSWA06001-0010)
TACT SWITCH 4PIN 50MA 12VDC KFC-A06-01 K; SAP: T670200011000; MFG: JIN JIA; CREATE_NAME: Nathan; DIP&SMD: DIP; Vendor Code: *; Vendor Name: *; Value: TACT; Current: *; Voltage: *; Type: Switch; CREATE_TIME: 26-Apr-2018; Customer Specific: N/A
footprint TACT SW KFC-A06-01-70-160 (TACT SWITCH KFC-A06-01-70-160)
pins: 1, 2, 3, 4

## TACT SW KFC-A06-01B-50-160
designator SW?, comment MFG Part: KFC-A06-01B-50-160  (hidden comment: T670500002700)
KFC-A06-01B-50-160 4PIN DC12V 1A K; MFG: JIN JIA; Value: TACT; Voltage: 12V; CREATE_NAME: Nathan; DIP&SMD: DIP; SAP: T670500002700; Vendor Code: *; Vendor Name: *; Current: 1A; Type: Switch; CREATE_TIME: 16-OCT-2018; Customer Specific: N/A
footprint TACT SW KFC-A06-01B-50-160 (TACT SWITCH KFC-A06-01B-50-160)
pins: 1, 2, 3, 4

## TACT SW KFC-A06-01B-70-160
designator SW?  MFG Part: KFC-A06-01B-70-160
tact switch, 4p, KFC-A06-01B-70-160; MFG: JIN JIA; Current: 1A; Voltage: 12V; CREATE_NAME: Nathan; DIP&SMD: DIP; SAP: *; Vendor Code: *; Vendor Name: *; Value: TACT; Type: Switch; CREATE_TIME: 17-Nov-2020; Customer Specific: N/A
footprint TACT SW KFC-A06-01B-70-160 (TACT SWITCH KFC-A06-01B-70-160)
pins: 1, 2, 3, 4

## TACT SW KFC-A06-02-90A
designator SW?, comment MFG Part: KFC-A06-02-90A  (hidden comment: T670200005600)
TACT SWITCH 50MA\12VDC KFC-A06-02-90A G; MFG: 金佳; CREATE_NAME: Nathan; DIP&SMD: DIP; SAP: T670200005600; Vendor Code: *; Vendor Name: *; Type: Switch; CREATE_TIME: 30-May-2016; Current: *; Voltage: *
footprint KFC-A06-02-90A (TACT Switch 6X6X9 180度 按柄3.0mm)
pins: 1, 2, 3, 4

## TACT SW KFC-A06-02-135-250
designator SW?, comment MFG Part: KFC-A06-02-135-250  (hidden comment: T670200010100)
TACT SWITCH 50MA\12VDC KFC-A06-02-135- K; MFG: JIN JIA; CREATE_NAME: Nathan; DIP&SMD: DIP; SAP: T670200010100; Vendor Code: *; Vendor Name: *; Value: TACT; Current: *; Voltage: *; Type: Switch; CREATE_TIME: 28-Sep-2017; Customer Specific: N/A
footprint KFC-A06-02-135-250 (TACT Switch 6X6X13.5 180度 按柄3.0mm)
pins: 1, 2, 3, 4

## TACT SW KFC-A06-02T-43-260
designator SW?, comment MFG Part: KFC-A06-02T-43-260  (hidden comment: T670200014700)
TACT SWITCH KFC-A06-02T-43-260 JINJIA; CREATE_NAME: Nathan; DIP&SMD: SMD; SAP: T670200014700; MFG: JINJIA; Vendor Code: *; Vendor Name: *; Value: TACT; Current: *; Voltage: *; Type: Switch; CREATE_TIME: 10-May-2019; Customer Specific: N/A
footprint TACT SW KFC-A06-02T-43-260 (TACT SWITCH 4P  6*6*4.3mm)
pins: 1, 2, 3, 4

## TACT SW KFC-A06-09-16-250
designator SW?  MFG Part: KFC-A06-09-16-250
TACT SWITCH 50MA\12VDC KFC-A06-09-16-2 K; MFG: JIN JIA; CREATE_NAME: Tom; DIP&SMD: SMD; SAP: *; Vendor Code: *; Vendor Name: *; Value: TACT; Current: *; Voltage: *; Type: Switch; CREATE_TIME: 04-May-2018; Customer Specific: N/A
footprint TACT SW KFC-A06-09-16-250
pins: 1, 2, 3, 4

## TACT SW KFC-A45-02-38-180
designator SW?
KFC-A45-02-38-180; MFG: JIN JIA; CREATE_NAME: Nathan; DIP&SMD: DIP; SAP: *; Vendor Code: *; Vendor Name: *; Type: Switch; CREATE_TIME: 04-Jun-2021; Customer Specific: N/A; MFG Part: KFC-A45-02-38-180
footprint TACK SW KFC-A45-02-38-180 (TACT Switch RA KFC-A45-02-38-180)
pins: 1, 2, 3

## TACT SW PTS525SP15SMTR2LFS
designator SW?, comment MFG Part: PTS525SP15SMTR2LFS  (hidden comment: T670200015500)
TACT SWITCH 50MA\12VDC PTS525SP15SMTR2 K; MFG: C&K; CREATE_NAME: Nathan; DIP&SMD: SMD; SAP: T670200015500; Vendor Code: *; Vendor Name: *; Value: TACT; Current: *; Voltage: *; Type: Switch; CREATE_TIME: 24-Oct-2019; Customer Specific: N/A
footprint TACT SW PTS525SP15SMTR2LFS
pins: 1, 2, 3, 4

## TACT SW SKHHLVA010
designator SW?, comment MFG Part: SKHHLVA010  (hidden comment: T670200005000)
TACT SW L3.3MM 1.57N SKHHLVA010 RA DIP G; MFG: ALPS; Current: 50mA; Voltage: 12V; CREATE_NAME: Tom; SAP: T670200005000; Vendor Code: *; Vendor Name: *; Value: TACT; Type: Switch; CREATE_TIME: 21-Jun-2016; DIP&SMD: DIP
footprint TACK SW SKHHLVA010
pins: 1, 2, 3, 4

## TACT SW SKRWADE030
designator SW?, comment MFG Part: SKRWADE030  (hidden comment: T670200016300)
SWITCH PUSHBUT SPST 4-PIN SMD L; MFG: ALPS; Value: TACT; CREATE_NAME: Nathan; DIP&SMD: DIP; SAP: T670200016300; Vendor Code: *; Vendor Name: *; Current: *; Voltage: *; Type: Switch; CREATE_TIME: 13-Apr-2020; Customer Specific: N/A
footprint TACT SW SKRWADE030
pins: 1, 2, 3, 4

## TACT SW SKSCLBE010
designator SW?, comment MFG Part: SKSCLBE010  (hidden comment: T670200014400)
TACT SWITCH 50MA\12VDC SKSCLBE010 H1.2 K; MFG: ALPS; CREATE_NAME: Nathan; Current: 50mA; Voltage: 12VDC; DIP&SMD: SMD; SAP: T670200014400; Vendor Code: *; Vendor Name: *; Type: Switch; CREATE_TIME: 02-May-2019
footprint TACT SW SKSCLBE010 (TACT SWITCH SKSCLBE010)
pins: 1, 2, 3, 4

## TACT SW TC-120V-T
designator SW?, comment MFG Part: TC-120V-T  (hidden comment: T670200004300)
TACT SWITCH 12V 0.05A K; MFG: JING JU; CREATE_NAME: Cherry; DIP&SMD: DIP; SAP: T670200004300; Vendor Code: *; Vendor Name: *; Value: TACT; Current: *; Voltage: *; Type: Switch; CREATE_TIME: 2019-04-10; Customer Specific: N/A
footprint TACT SW TC-120V-T (TACT SWITCH TC-120V-T)
pins: 1, 2, 3, 4

## TACT SW TC-06104-050F
designator SW?, comment MFG Part: TC-06104-050F  (hidden comment: T670200008800)
SMD TACT SWITCH 4PIN DC12V 50MA K; MFG: HAOYU; Voltage: 12V DC; Current: 0.3A; CREATE_NAME: Tom; SAP: T670200008800; Vendor Code: *; Vendor Name: *; Value: TACT; Type: Switch; CREATE_TIME: 04-Mar-2016; DIP&SMD: SMD
footprint TACT SW TC-06104-050F
pins: A, B, C, D

## TACT SW TL3301AF160QG
designator SW?  MFG Part: KFC-A4.6-02T-15-250
TACT SWITCH SMT - 6MM*6MM 12VDC 50MA; MFG: E-SWITCH; CREATE_NAME: Nathan; DIP&SMD: SMD; SAP: *; Vendor Code: *; Vendor Name: *; Type: Switch; CREATE_TIME: 10-Dec-2020; Current: *; Voltage: *
footprint TACT SW TL3301AF160QG (SMD TACT SWITCH 6*6*5mm TL3301AF160QG)
pins: 1, 2, 3, 4

## TACT SW TS-1102-250H13.5
designator SW?, comment MFG Part: TS-1102-250H13.5  (hidden comment: T670200012900)
TACT SWITCH 50MA\12VDC TS-1102-250H13.5 K; MFG: JINGJU; CREATE_NAME: Nathan; DIP&SMD: DIP; SAP: T670200012900; Vendor Code: *; Vendor Name: *; Value: TACT; Current: *; Voltage: *; Type: Switch; CREATE_TIME: 07-Nov-2018; Customer Specific: N/A
footprint TACT SW TS-1102-250H13.5 (TACT Switch 6X6X13.5 180度 按柄3.0mm)
pins: 1, 2, 3, 4

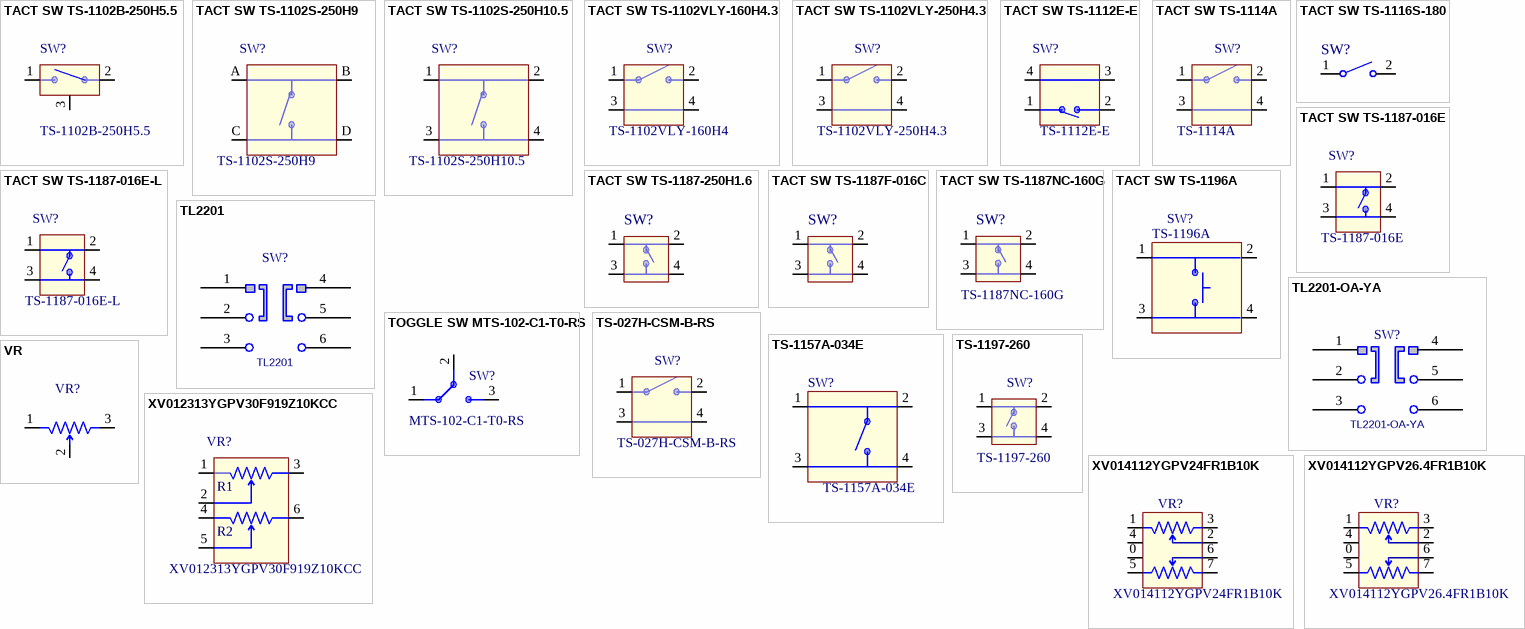
[diagram p3: symbols TACT SW TS-1102B-250H5.5 to XV014112YGPV26.4FR1B10K]

## TACT SW TS-1102B-250H5.5
designator SW?, comment MFG Part: TS-1102B-250H5.5  (hidden comment: T670000000700)
SP SW 12V TS-1102B-250H5.5 JINGJU DIP K; CREATE_NAME: Nathan; SAP: T670000000700; MFG: JINGJU; Vendor Code: *; Vendor Name: *; Type: Switch; CREATE_TIME: 04-Oct-2018; DIP&SMD: DIP; Customer Specific: N/A
footprint TACK SW TS-1102B-250H5.5 (TACT Switch RA TS-1102B-250H5.5)
pins: 1, 2, 3

## TACT SW TS-1102S-250H9
designator SW?, comment MFG Part: TS-1102S-250H9  (hidden comment: T670200014500)
TACT SW TS-1102S-250H9 JINGJU K; Current: 50mA; Voltage: 12V; CREATE_NAME: Nathan; DIP&SMD: SMD; SAP: T670200014500; MFG: JINGJU; Vendor Code: *; Vendor Name: *; Value: TACT; Type: Switch; CREATE_TIME: 07-May-2019; Customer Specific: N/A
footprint TACT SW TS-1102S-250H9 (SMD TACT SWITCH 6*6*9mm TS-1102S-250H9)
pins: A, B, C, D

## TACT SW TS-1102S-250H10.5
designator SW?, comment MFG Part: TS-1102S-250H10.5  (hidden comment: T670200015100)
TACT SW TS-1102S-250H10.5 JINGJU K; Current: 50mA; Voltage: 12V; CREATE_NAME: Nathan; DIP&SMD: SMD; SAP: T670200015100; MFG: JINGJU; Vendor Code: *; Vendor Name: *; Value: TACT; Type: Switch; CREATE_TIME: 05-July-2019; Customer Specific: N/A
footprint TACT SW TS-1102S-250H10.5 (SMD TACT SWITCH 6*6*10.5mm TS-1102S-250H10.5)
pins: 1, 2, 3, 4

## TACT SW TS-1102VLY-160H4.3
designator SW?, comment MFG Part: TS-1102VLY-160H4  (hidden comment: T670000000600)
SP SW 12V TS-1102VLY-160H4 JINGJU DIP K; Value: TACT; CREATE_NAME: Nathan; SAP: T670000000600; MFG: JINGJU; Vendor Code: *; Vendor Name: *; Current: *; Voltage: *; Type: Switch; DIP&SMD: DIP; CREATE_TIME: 08-Sep-2020
footprint TACT SW TS-1102VLY (TS-1102VLY)
pins: 1, 2, 3, 4

## TACT SW TS-1102VLY-250H4.3
designator SW?
TS-1102VLY-250H4.3; MFG: JINGJU; Value: TACT; DIP&SMD: DIP; CREATE_NAME: Nathan; SAP: *; Vendor Code: *; Vendor Name: *; Current: *; Voltage: *; Type: Switch; CREATE_TIME: 29-Jan-2021; MFG Part: TS-1102VLY-250H4.3
footprint TACT SW TS-1102VLY (TS-1102VLY)
pins: 1, 2, 3, 4

## TACT SW TS-1112E-E
designator SW?  MFG Part: TS-1112E-E  (hidden comment: *)
TACT SW TS-1112E-E; MFG: HAOYU; CREATE_NAME: Tom; DIP&SMD: SMD; SAP: *; Vendor Code: *; Vendor Name: *; Value: TACT; Current: *; Voltage: *; Type: Switch; CREATE_TIME: 28-Apr-2020; Customer Specific: N/A
footprint TACT SW TS-1112E-E
pins: 1, 2, 3, 4

## TACT SW TS-1114A
designator SW?  (value not drawn)
TS-1114A; MFG: HAOYU; Value: TACT; DIP&SMD: SMD; CREATE TIME: 2020 04 06; CREATE_NAME: Cherry; SAP: *; Vendor Code: *; Vendor Name: *; Current: *; Voltage: *; Type: Switch; MFG Part: TS-1114A
footprint TS-1114A
pins: 1, 2, 3, 4

## TACT SW TS-1116S-180
designator SW?, comment T670200013200  (value not drawn)
TACT SMD TS-1116S-180 50MA DC12V K; MFG: 精聚; CREATE_NAME: Nathan; SAP: T670200013200; Vendor Name: *; Vendor Code: *; Type: Switch; CREATE_TIME: 29-Nov-2018; MFG Part: TS-1116S-180; DIP&SMD: SMD; Customer Specific: N/A
footprint TACT SW TTS-1116S-180 (3*4*2.0 (TACT SW))
pins: 1, 2
2 alternate drawings of the same symbol

## TACT SW TS-1187-016E
designator SW?  MFG Part: TS-1187-016E  (hidden comment: *)
TACT SWITCH 50mA 12VDC TS-1187-016E; MFG: HAOYU; DIP&SMD: SMD; CREATE_NAME: Nathan; SAP: *; Vendor Code: *; Vendor Name: *; Value: TACT; Current: *; Voltage: *; Type: Switch; CREATE_TIME: 24-Jul-2020
footprint TACT SW TS-1187-016E (TS-1187-016E 4P  5.2*5.2*6.5*1.6mm)
pins: 1, 2, 3, 4

## TACT SW TS-1187-016E-L
designator SW?  MFG Part: TS-1187-016E-L  (hidden comment: *)
TACT SWITCH 0.3A 12VDC TS-1187-016E-L; MFG: HAOYU; DIP&SMD: SMD; CREATE_NAME: Nathan; SAP: *; Vendor Code: *; Vendor Name: *; Value: TACT; Current: *; Voltage: *; Type: Switch; CREATE_TIME: 28-Jul-2020
footprint TACT SW TS-1187-016E (TS-1187-016E 4P  5.2*5.2*6.5*1.6mm)
pins: 1, 2, 3, 4

## TACT SW TS-1187-250H1.6
designator SW?
TACT SWITCH TS-1187-250H1.6; MFG: JING JU; CREATE_NAME: Nathan; DIP&SMD: SMD; SAP: *; Type: Switch; CREATE_TIME: 14-Jan-2020; MFG Part: TS-1187-250H1.6
footprint TACT SW TS-1187-250H1.6 (TS-1187-250H1.6 4P  5.2*5.2*6.4*1.6mm)
pins: 1, 2, 3, 4

## TACT SW TS-1187F-016C
designator SW?
TACT SWITCH TS-1187F-016C; MFG: JING JU; CREATE_NAME: Nathan; DIP&SMD: SMD; SAP: *; Type: Switch; CREATE_TIME: 25-Jun-2021; MFG Part: TS-1187F-016C
footprint TS-1187F (CHIP TACT SWITCH H=1.65mm TS-1187F)
pins: 1, 2, 3, 4

## TACT SW TS-1187NC-160G
designator SW?, comment MFG Part: TS-1187NC-160G  (hidden comment: T670200012000)
TACT SWITCH 50MA 12VDC TS-1187NC-160G K; MFG: 精聚(JING JU); CREATE_NAME: Nathan; DIP&SMD: SMD; SAP: T670200012000; Vendor Name: *; Vendor Code: *; Type: Switch; CREATE_TIME: 26-Sep-2019; Customer Specific: N/A
footprint TACT SW TS-1187NC-160G (CHIP TACT SWITCH H=0.8mm TS-1187NC-160G)
pins: 1, 2, 3, 4

## TACT SW TS-1196A
designator SW?
TS-1196A; MFG: Haoyu; CREATE_NAME: Nathan; DIP&SMD: SMD; SAP: *; Vendor Code: *; Vendor Name: *; Type: Switch; CREATE_TIME: 09-Apr-2021; Current: *; MFG Part: TS-1196A
footprint TACT SW TS-1196A
pins: 1, 2, 3, 4

## TL2201
designator SW?, comment MFG Part: TL2201  (hidden comment: MSWA03004-0011)
E SWITCH TL2201EEYA TL2201 WITH LOCK; SAP: T670100000500; MFG: E-SWITCH; CREATE_NAME: Nathan; DIP&SMD: DIP; CREATE_TIME: 19-Sep-2014; TYPE: SWITCH
footprint TL2201
pins: 1, 2, 3, 4, 5, 6

## TL2201-OA-YA
designator SW?, comment MFG Part: TL2201-OA-YA  (hidden comment: MSWA03004-0010)
E SWITCH PUSH TL2201-OA-YA K; SAP: T670100000400; MFG: E-SWITCH; CREATE_NAME: Tom; Value: DC30V/0.1A; DIP&SMD: DIP; CREATE_TIME: 15-Apr-2015; TYPE: SWITCH
footprint TL2201
pins: 1, 2, 3, 4, 5, 6

## TOGGLE SW MTS-102-C1-T0-RS
designator SW?  MFG Part: MTS-102-C1-T0-RS
TOGGLE SW MTS-102-C1-T0-RS; MFG: Yuanfeng; CREATE_NAME: Nathan; DIP&SMD: DIP; SAP: *; Vendor Code: *; Vendor Name: *; Value: *; Type: Switch; CREATE_TIME: 26-Mar-2021; Customer Specific: N/A
footprint TOGGLE SW MTS-102-C1-T0-RS
pins: 1, 2 Comm, 3

## TS-027H-CSM-B-RS
designator SW?, comment MFG Part: TS-027H-CSM-B-RS  (hidden comment: MSWA06001-0010)
TACT SWITCH 4PIN 50MA 12VDC ELTSA-63N-H; SAP: T670200001000; MFG: JINGMINGHAO; Vendor Code: 10010007; Vendor Name: 深圳市金明浩电子科技有限公司; Voltage: 12V; Remark: Updated the TACT L from 3.85 to 5.85 on 08-Apr-2016 (Nathan); DIP&SMD: DIP; Value: TACT; Current: 50mA; Type: Switch
footprint TS-027H-CSM-B-RS
pins: 1, 2, 3, 4

## TS-1157A-034E
designator SW?  MFG Part: TS-1157A-034E
CHIP SWITCH  4P  W4.5  H1.6  PITCH3.4; MFG: 皓宇; Value: TACT; Current: 50mA; Voltage: 12V; DIP&SMD: SMD; CREATE_NAME: Nathan; SAP: *; Vendor Code: *; Vendor Name: *; Type: Switch; CREATE_TIME: 13-Nov-2020
footprint TS-1157A-034E (CHIP SWITCH  4P  W6.5  H2  PITCH4.5)
pins: 1, 2, 3, 4

## TS-1197-260
designator SW?, comment MFG Part: TS-1197-260  (hidden comment: T670200006600)
TACT SWITCH 4P 50MA 12V CONTACT RESIST G; MFG: JINGJU; CREATE_NAME: Nathan; DIP&SMD: SMD; SAP: T670200006600; Vendor Code: *; Vendor Name: *; Value: TACT; Current: *; Voltage: *; Type: Switch; CREATE_TIME: 16-Mar-2017
footprint TS-1197-260 (CHIP TACT SWITCH H=0.55mm TS-1197-260)
pins: 1, 2, 3, 4

## VR
designator VR?
pins: 1, 2, 3

## XV012313YGPV30F919Z10KCC
designator VR?, comment MFG Part: XV012313YGPV30F919Z10KCC  (hidden comment: MVRA02301-1030)
POT RTRY 10KZD 23MM DUAL UNIT PLASTIC SHAFT WITH CENTER DETENT; SAP: T532230000116; MFG: NOBLE; CREATE_NAME: TOM@Deftronics; DIP&SMD: DIP; Vendor Code: *; Vendor Name: *; Value: *; Type: Switch; CREATE_TIME: 4-JULY-2013
footprint XV012313YGPV30F919Z10KCC
pins: 1, 2, 3, 4, 5, 6
text: R1; R2

## XV014112YGPV24FR1B10K
designator VR?, comment MFG Part: XV014112YGPV24FR1B10K  (hidden comment: T531220000116)
VR CA 10K B 15.4X14X24 XV014112Y W; MFG: NOBLE (TEIKOKU TSUSHIN KOGYO CO); CREATE_NAME: Nathan; DIP&SMD: DIP; SAP: T531220000116; Vendor Code: *; Vendor Name: *; Value: *; Type: Potentiometer; CREATE_TIME: 17-June-2016; Tolerance: *
footprint XV014112YGPV24FR1B10K
pins: 0, 1, 2, 3, 4, 5, 6, 7

## XV014112YGPV26.4FR1B10K
designator VR?, comment MFG Part: XV014112YGPV26.4FR1B10K  (hidden comment: T531220000216)
VR CA 10K B 15.4X14X26 XV014112Y W; MFG: NOBLE (TEIKOKU TSUSHIN KOGYO CO); CREATE_NAME: Nathan; DIP&SMD: DIP; SAP: T531220000216; Vendor Code: *; Vendor Name: *; Value: *; Type: Potentiometer; CREATE_TIME: 17-June-2016; Tolerance: *
footprint XV014112YGPV26.4FR1B10K
pins: 0, 1, 2, 3, 4, 5, 6, 7